# Altium schematic symbol library ADS7824U1K.SchLib: 2 symbols
Pins are listed as number, name and electrical type; pins without a type are passive.

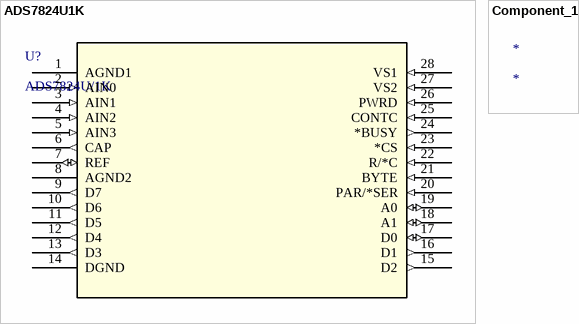
[diagram p0: symbols ADS7824U1K to Component_1]

## ADS7824U1K
designator U?, comment ADS7824U/1K
No Description Available; Mfr_Name: Texas Instruments; Copyright: Copyright (C) 2023 Ultra Librarian. All rights reserved.; Manufacturer_Part_Number: ADS7824U/1K; RefDes: RefDes; Type: DEV
footprint DW28
pins: 1 AGND1 (power), 2 AIN0 (in), 3 AIN1 (in), 4 AIN2 (in), 5 AIN3 (in), 6 CAP (out), 7 REF (io), 8 AGND2 (power), 9 D7 (out), 10 D6 (out), 11 D5 (out), 12 D4 (out), 13 D3 (out), 14 DGND (power), 15 D2 (out), 16 D1 (out), 17 D0 (io), 18 A1 (io), 19 A0 (io), 20 PAR/*SER (in), 21 BYTE (in), 22 R/*C (in), 23 *CS (in), 24 *BUSY (out), 25 CONTC (in), 26 PWRD (in), 27 VS2 (in), 28 VS1 (in)

## Component_1
designator *